# Altium schematic symbol library LM75BGD,125.SchLib: 1 symbol
Pins are listed as number, name and electrical type; pins without a type are passive.

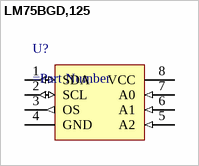
[diagram p0: symbol LM75BGD,125]

## LM75BGD,125
designator U?
=Description
pins: 1 SDA (io), 2 SCL (io), 3 OS (out), 4 GND (power), 5 A2 (in), 6 A1 (in), 7 A0 (in), 8 VCC (power)